# Altium footprint library Connector_Audio.PcbLib: 212 footprints (part 1 of 14)
Each footprint in its own frame and in the unit in brackets; x right, y up, seen from the top. Pads: shape width x height; smd on the part's side, far side on the other; paste and mask are expansions set on the pad; w line width, h text height; cw(c..) or ccw(c..) is an arc to the next point about the centre after c.
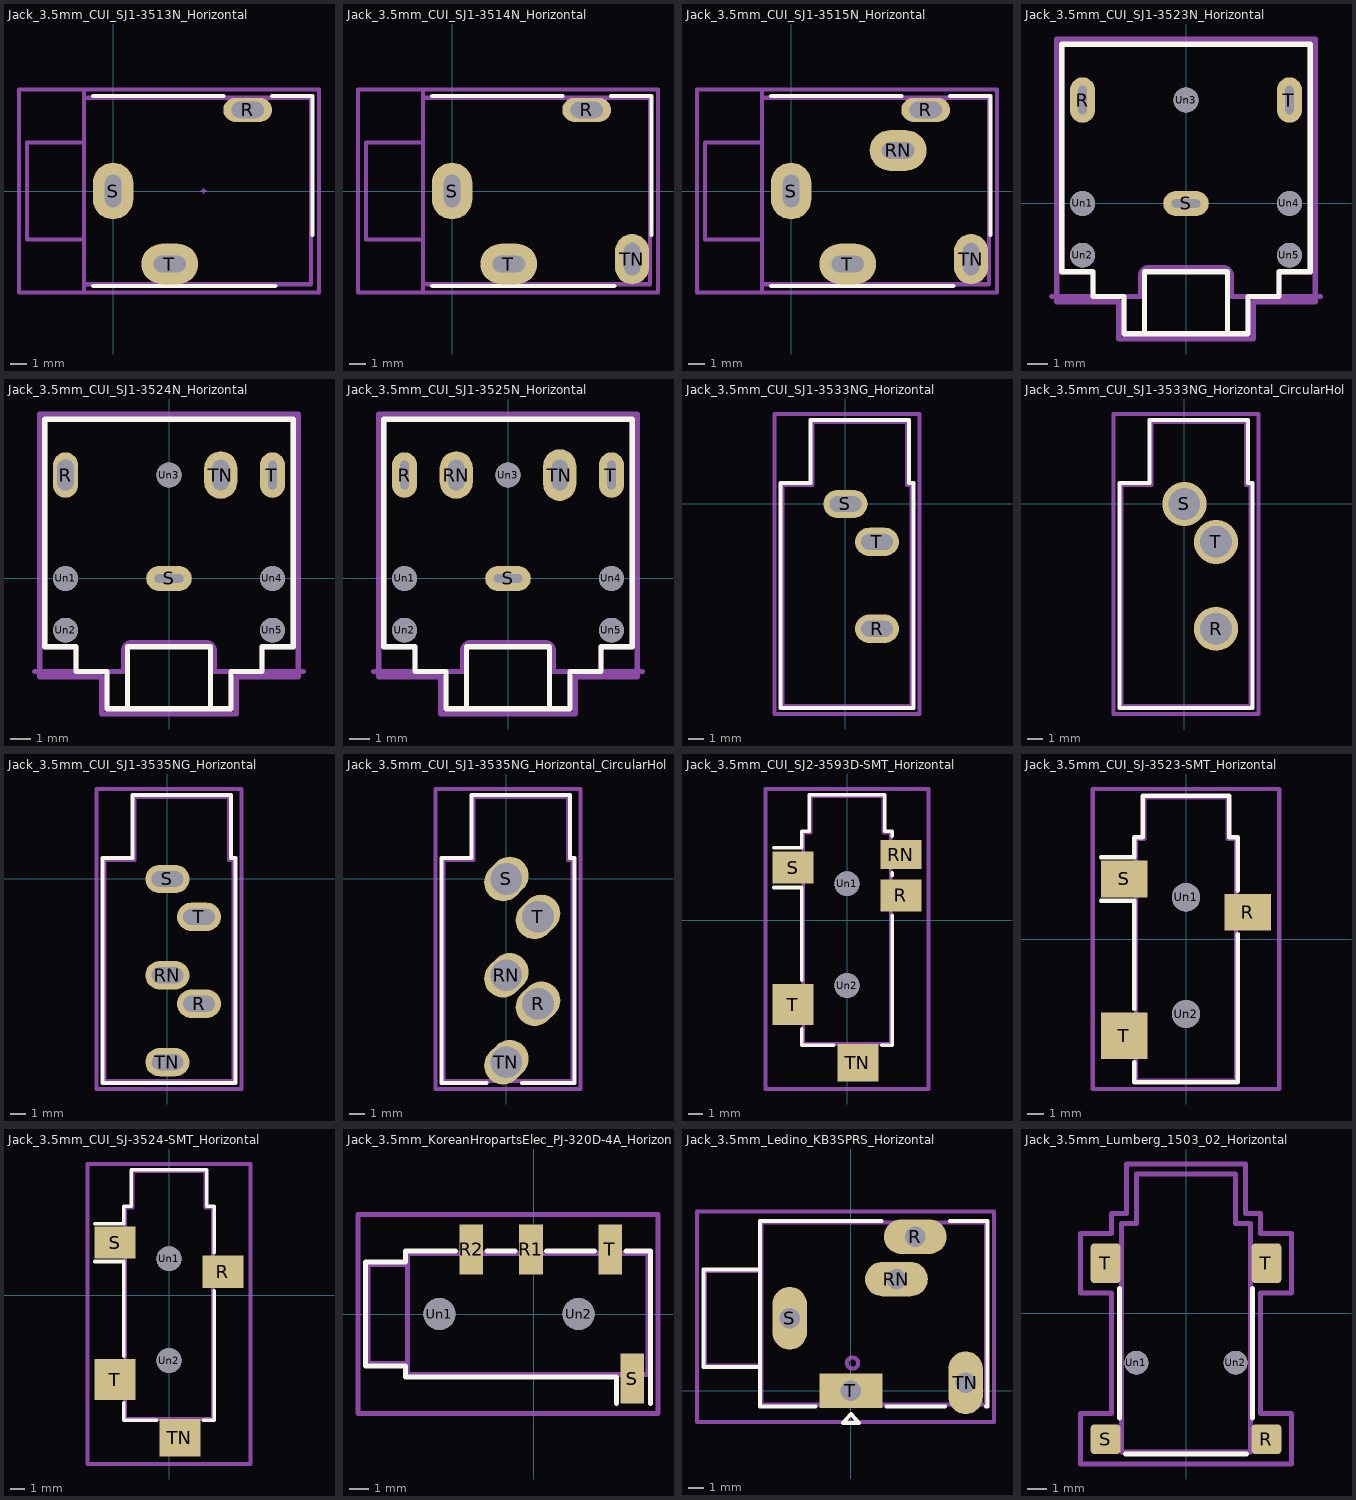
[diagram p0: the footprints below, top view; thin cyan lines are the x and y axes]

## Jack_3.5mm_CUI_SJ1-3513N_Horizontal [mm]
pads (3):
  rrect100% 3x1.5 hole 1 slot 2 at 0 deg: R(8.3,5)
  rrect100% 2.5x3.5 hole 1 slot 2 at 90 deg: S(0,0)
  rrect100% 3.5x2.5 hole 1 slot 2 at 0 deg: T(3.5,-4.5)
F.SilkS:
  lines w0.254: -1.219,-5.86 10,-5.86 ; -1.219,5.86 6.8,5.86 ; 9.8,5.86 12.31,5.86 12.31,-2.7
Top Component Center:
  lines w0.127: 5.461,0 5.715,0 ; 5.588,-0.127 5.588,0.127
Top Assembly:
  lines w0.254: -5.3,-3 -1.8,-3 -1.8,-5.75 12.2,-5.75 12.2,5.75 -1.8,5.75 -1.8,3 -5.3,3 -5.3,-3
  text "'.Designator'" at 1.153,-0.84 h1
Top Courtyard:
  lines w0.254: -5.8,-6.25 12.7,-6.25 12.7,6.25 -5.8,6.25 -5.8,-6.25
Top Designator:
  text ".Designator" at -4.168,-0.508 h1.52
Cmts.User:
  lines w0.254: -1.8,-6.25 -1.8,6.25

## Jack_3.5mm_CUI_SJ1-3514N_Horizontal [mm]
pads (4):
  rrect100% 3x1.5 hole 1 slot 2 at 0 deg: R(8.3,5)
  rrect100% 2.5x3.5 hole 1 slot 2 at 90 deg: S(0,0)
  rrect100% 3.5x2.5 hole 1 slot 2 at 0 deg: T(3.5,-4.5)
  rrect100% 2.1x3.1 hole 1 slot 2 at 90 deg: TN(11.1,-4.2)
F.SilkS:
  lines w0.254: -1.219,-5.86 10,-5.86 ; -1.219,5.86 6.8,5.86 ; 9.8,5.86 12.31,5.86 12.31,-2.7
Top Assembly:
  lines w0.254: -5.3,-3 -1.8,-3 -1.8,-5.75 12.2,-5.75 12.2,5.75 -1.8,5.75 -1.8,3 -5.3,3 -5.3,-3
  text "'.Designator'" at 1.153,-0.84 h1
Top Courtyard:
  lines w0.254: -5.8,-6.25 12.7,-6.25 12.7,6.25 -5.8,6.25 -5.8,-6.25
Top Designator:
  text ".Designator" at -4.168,-0.508 h1.52
Cmts.User:
  lines w0.254: -1.8,-6.25 -1.8,6.25

## Jack_3.5mm_CUI_SJ1-3515N_Horizontal [mm]
pads (5):
  rrect100% 3x1.5 hole 1 slot 2 at 0 deg: R(8.3,5)
  rrect100% 3.5x2.5 hole 1 slot 2 at 0 deg: RN(6.6,2.5) T(3.5,-4.5)
  rrect100% 2.5x3.5 hole 1 slot 2 at 90 deg: S(0,0)
  rrect100% 2.1x3.1 hole 1 slot 2 at 90 deg: TN(11.1,-4.2)
F.SilkS:
  lines w0.254: -1.219,-5.86 10,-5.86 ; -1.219,5.86 6.8,5.86 ; 9.8,5.86 12.31,5.86 12.31,-2.7
Top Assembly:
  lines w0.254: -5.3,-3 -1.8,-3 -1.8,-5.75 12.2,-5.75 12.2,5.75 -1.8,5.75 -1.8,3 -5.3,3 -5.3,-3
  text "'.Designator'" at 1.153,-0.84 h1
Top Courtyard:
  lines w0.254: -5.8,-6.25 12.7,-6.25 12.7,6.25 -5.8,6.25 -5.8,-6.25
Top Designator:
  text ".Designator" at -4.168,-0.508 h1.52
Cmts.User:
  lines w0.254: -1.8,-6.25 -1.8,6.25

## Jack_3.5mm_CUI_SJ1-3523N_Horizontal [mm]
pads (8):
  rrect100% 1.2x2.2 hole 1.4 slot 0.4 at 0 deg: R(-5,5) T(5,5)
  rrect100% 2.2x1.2 hole 0.4 slot 1.4 at 0 deg: S(0,0)
  round 1.2 hole 1.2: Un1(-5,0) Un2(-5,-2.5) Un3(0,5) Un4(5,0) Un5(5,-2.5)
F.SilkS:
  lines w0.254: -2,-6.3 -2,-3.3 2,-3.3 2,-6.3 ; -6,-3.3 -4.5,-3.3 -4.5,-4.5 -3,-4.5 -3,-6.3 3,-6.3 3,-4.5 4.5,-4.5 4.5,-3.3 6,-3.3 6,7.7 -6,7.7 -6,-3.3
Top Assembly:
  lines w0.254: -6,-3.3 -4.5,-3.3 -4.5,-4.5 -3,-4.5 -3,-6.3 3,-6.3 3,-4.5 4.5,-4.5 4.5,-3.3 6,-3.3 6,7.7 -6,7.7 -6,-3.3
  text "'.Designator'" at -4.047,0.66 h1
Top Courtyard:
  lines w0.254: -6.25,-4.75 -3.25,-4.75 -3.25,-6.55 3.25,-6.55 3.25,-4.75 6.25,-4.75 6.25,-4.5 6.25,7.95 -6.25,7.95 -6.25,-4.75
Top Designator:
  text ".Designator" at -7.618,0.192 h1.52
Board Shape:
  lines w0.254: -6.5,-4.5 -2.2,-4.5 -2.2,-3.5 cw(c-1.8,-3.5) -1.8,-3.1 1.8,-3.1 cw(c1.8,-3.5) 2.2,-3.5 2.2,-4.5 6.5,-4.5
Dwgs.User:
  text "PCB edge" at -3.447,-4.467 h1
3D body "Jack_3.5mm_CUI_SJ1-3523N_Horizontal.step": height 5.5, standoff -3.3, extent -6,-6.8 6,7.5

## Jack_3.5mm_CUI_SJ1-3524N_Horizontal [mm]
pads (9):
  rrect100% 1.2x2.2 hole 1.5 slot 0.8 at 0 deg: R(-5,5)
  rrect100% 2.2x1.2 hole 0.4 slot 1.4 at 0 deg: S(0,0)
  rrect100% 1.2x2.2 hole 1.4 slot 0.4 at 0 deg: T(5,5)
  rrect100% 1.6x2.3 hole 1.5 slot 0.8 at 0 deg: TN(2.5,5)
  round 1.2 hole 1.2: Un1(-5,0) Un2(-5,-2.5) Un3(0,5) Un4(5,0) Un5(5,-2.5)
F.SilkS:
  lines w0.254: -2,-6.3 -2,-3.3 2,-3.3 2,-6.3 ; -6,-3.3 -6,7.7 6,7.7 6,-3.3 4.5,-3.3 4.5,-4.5 3,-4.5 3,-6.3 -3,-6.3 -3,-4.5 -4.5,-4.5 -4.5,-3.3 -6,-3.3
Top Assembly:
  lines w0.254: -6,-3.3 -6,7.7 6,7.7 6,-3.3 4.5,-3.3 4.5,-4.5 3,-4.5 3,-6.3 -3,-6.3 -3,-4.5 -4.5,-4.5 -4.5,-3.3 -6,-3.3
  text "'.Designator'" at -4.047,0.66 h1
Top Courtyard:
  lines w0.254: -6.25,-4.75 -6.25,7.95 6.25,7.95 6.25,-4.5 6.25,-4.75 3.25,-4.75 3.25,-6.55 -3.25,-6.55 -3.25,-4.75 -6.25,-4.75
Top Designator:
  text ".Designator" at -7.618,0.192 h1.52
Board Shape:
  lines w0.254: -6.5,-4.5 -2.2,-4.5 -2.2,-3.5 cw(c-1.8,-3.5) -1.8,-3.1 1.8,-3.1 cw(c1.8,-3.5) 2.2,-3.5 2.2,-4.5 6.5,-4.5
Dwgs.User:
  text "PCB edge" at -3.447,-4.467 h1
3D body "Jack_3.5mm_CUI_SJ1-3524N_Horizontal.step": height 5.5, standoff -3.3, extent -6,-6.8 6,7.5

## Jack_3.5mm_CUI_SJ1-3525N_Horizontal [mm]
pads (10):
  rrect100% 1.2x2.2 hole 1.4 slot 0.4 at 0 deg: R(-5,5) T(5,5)
  rrect100% 1.6x2.3 hole 1.5 slot 0.8 at 0 deg: RN(-2.5,5)
  rrect100% 2.2x1.2 hole 0.4 slot 1.4 at 0 deg: S(0,0)
  rrect100% 1.6x2.5 hole 1.5 slot 0.8 at 0 deg: TN(2.5,5)
  round 1.2 hole 1.2: Un1(-5,0) Un2(-5,-2.5) Un3(0,5) Un4(5,0) Un5(5,-2.5)
F.SilkS:
  lines w0.254: -2,-6.3 -2,-3.3 2,-3.3 2,-6.3 ; -6,-3.3 -4.5,-3.3 -4.5,-4.5 -3,-4.5 -3,-6.3 3,-6.3 3,-4.5 4.5,-4.5 4.5,-3.3 6,-3.3 6,7.7 -6,7.7 -6,-3.3
Top Assembly:
  lines w0.254: -6,-3.3 -4.5,-3.3 -4.5,-4.5 -3,-4.5 -3,-6.3 3,-6.3 3,-4.5 4.5,-4.5 4.5,-3.3 6,-3.3 6,7.7 -6,7.7 -6,-3.3
  text "'.Designator'" at -4.047,0.66 h1
Top Courtyard:
  lines w0.254: -6.25,-4.75 -3.25,-4.75 -3.25,-6.55 3.25,-6.55 3.25,-4.75 6.25,-4.75 6.25,-4.5 6.25,7.95 -6.25,7.95 -6.25,-4.75
Top Designator:
  text ".Designator" at -7.618,0.192 h1.52
Board Shape:
  lines w0.254: -6.5,-4.5 -2.2,-4.5 -2.2,-3.5 cw(c-1.8,-3.5) -1.8,-3.1 1.8,-3.1 cw(c1.8,-3.5) 2.2,-3.5 2.2,-4.5 6.5,-4.5
Dwgs.User:
  text "PCB edge" at -3.447,-4.467 h1
3D body "Jack_3.5mm_CUI_SJ1-3525N_Horizontal.step": height 5.5, standoff -3.3, extent -6,-6.8 6,7.5

## Jack_3.5mm_CUI_SJ1-3533NG_Horizontal [mm]
pads (3):
  rrect100% 2.8x1.8 hole 1 slot 2 at 0 deg: R(2,-7.9) S(0,0) T(2,-2.4)
F.SilkS:
  lines w0.254: -4.12,-12.92 4.32,-12.92 4.32,1.32 4.02,1.32 4.02,5.32 -2.22,5.32 -2.22,1.32 -4.12,1.32 -4.12,-12.92
Top Assembly:
  lines w0.254: -4,-12.8 4.2,-12.8 4.2,1.2 3.9,1.2 3.9,5.2 -2.1,5.2 -2.1,1.2 -4,1.2 -4,-12.8
  text "'.Designator'" at -3.947,-4.64 h1
Top Courtyard:
  lines w0.254: -4.5,-13.3 4.7,-13.3 4.7,5.7 -4.5,5.7 -4.5,-13.3
Top Designator:
  text ".Designator" at -7.518,-4.308 h1.52

## Jack_3.5mm_CUI_SJ1-3533NG_Horizontal_CircularHoles [mm]
pads (3):
  round 2.8 hole 2: R(2,-7.9) S(0,0) T(2,-2.4)
F.SilkS:
  lines w0.254: -4.12,-12.92 4.32,-12.92 4.32,1.32 4.02,1.32 4.02,5.32 -2.22,5.32 -2.22,1.32 -4.12,1.32 -4.12,-12.92
Top Assembly:
  lines w0.254: -4,-12.8 4.2,-12.8 4.2,1.2 3.9,1.2 3.9,5.2 -2.1,5.2 -2.1,1.2 -4,1.2 -4,-12.8
  text "'.Designator'" at -3.947,-4.64 h1
Top Courtyard:
  lines w0.254: -4.5,-13.3 4.7,-13.3 4.7,5.7 -4.5,5.7 -4.5,-13.3
Top Designator:
  text ".Designator" at -7.518,-4.308 h1.52

## Jack_3.5mm_CUI_SJ1-3535NG_Horizontal [mm]
pads (5):
  rrect100% 2.8x1.8 hole 1 slot 2 at 0 deg: R(2,-7.9) RN(0,-6.1) S(0,0) T(2,-2.4) TN(0,-11.6)
F.SilkS:
  lines w0.254: -4.12,-12.92 4.32,-12.92 4.32,1.32 4.02,1.32 4.02,5.32 -2.22,5.32 -2.22,1.32 -4.12,1.32 -4.12,-12.92
Top Assembly:
  lines w0.254: -4,-12.8 4.2,-12.8 4.2,1.2 3.9,1.2 3.9,5.2 -2.1,5.2 -2.1,1.2 -4,1.2 -4,-12.8
  text "'.Designator'" at -3.947,-4.64 h1
Top Courtyard:
  lines w0.254: -4.5,-13.3 4.7,-13.3 4.7,5.7 -4.5,5.7 -4.5,-13.3
Top Designator:
  text ".Designator" at -7.518,-4.308 h1.52

## Jack_3.5mm_CUI_SJ1-3535NG_Horizontal_CircularHoles [mm]
pads (5):
  rrect100% 3x2.4 hole 2 rot 45: R(2,-7.9) RN(0,-6.1) S(0,0) T(2,-2.4) TN(0,-11.6)
F.SilkS:
  lines w0.254: -1.25,-12.92 -4.12,-12.92 -4.12,1.32 -2.22,1.32 -2.22,5.32 4.02,5.32 4.02,1.32 4.32,1.32 4.32,-12.92 1,-12.92
Top Assembly:
  lines w0.254: -4,-12.8 4.2,-12.8 4.2,1.2 3.9,1.2 3.9,5.2 -2.1,5.2 -2.1,1.2 -4,1.2 -4,-12.8
  text "'.Designator'" at -3.947,-4.64 h1
Top Courtyard:
  lines w0.254: -4.5,-13.3 4.7,-13.3 4.7,5.7 -4.5,5.7 -4.5,-13.3
Top Designator:
  text ".Designator" at -7.518,-4.421 h1.52

## Jack_3.5mm_CUI_SJ2-3593D-SMT_Horizontal [mm]
pads (7):
  rect 2.8x2.2 smd: R(3.7,1.7) S(-3.7,3.6)
  rect 2.8x2 smd: RN(3.7,4.5)
  rect 2.8x2.8 smd: T(-3.7,-5.8)
  rect 2.8x2.6 smd: TN(0.75,-9.8)
  round 1.7 hole 1.7: Un1(0,2.5) Un2(0,-4.5)
F.SilkS:
  lines w0.254: -5.04,2.24 -3.1,2.24 -3.1,-4.14 ; -5.04,4.96 -3.1,4.96 -3.1,6.1 -2.6,6.1 -2.6,8.6 2.6,8.6 2.6,6.1 3.1,6.1 3.1,5.76 ; -3.1,-7.46 -3.1,-8.6 -0.91,-8.6 ; 2.41,-8.6 3.1,-8.6 3.1,0.34 ; 3.1,3.06 3.1,3.24
Top Assembly:
  lines w0.254: -3,-8.5 3,-8.5 3,6 2.5,6 2.5,8.5 -2.5,8.5 -2.5,6 -3,6 -3,-8.5
  text "'.Designator'" at -4.047,-0.84 h1
Top Courtyard:
  lines w0.254: -5.6,-11.6 5.6,-11.6 5.6,9 -5.6,9 -5.6,-11.6
Top Designator:
  text ".Designator" at -7.618,-1.808 h1.52

## Jack_3.5mm_CUI_SJ-3523-SMT_Horizontal [mm]
pads (5):
  rect 2.8x2.2 smd: R(3.7,1.6) S(-3.7,3.6)
  rect 2.8x2.8 smd: T(-3.7,-5.8)
  round 1.7 hole 1.7: Un1(0,2.5) Un2(0,-4.5)
F.SilkS:
  lines w0.254: -5.1,2.3 -3.1,2.3 -3.1,-4.2 ; -5.1,4.9 -3.1,4.9 -3.1,6.1 -2.6,6.1 -2.6,8.6 2.6,8.6 2.6,6.1 3.1,6.1 3.1,2.9 ; -3.1,-7.4 -3.1,-8.6 3.1,-8.6 3.1,0.3
Top Assembly:
  lines w0.254: -3,-8.5 -3,6 -2.5,6 -2.5,8.5 2.5,8.5 2.5,6 3,6 3,-8.5 -3,-8.5
  text "'.Designator'" at -4.047,-0.84 h1
Top Courtyard:
  lines w0.254: -5.6,-9 -5.6,9 5.6,9 5.6,-9 -5.6,-9
Top Designator:
  text ".Designator" at -7.618,-0.508 h1.52

## Jack_3.5mm_CUI_SJ-3524-SMT_Horizontal [mm]
pads (6):
  rect 2.8x2.2 smd: R(3.7,1.6) S(-3.7,3.6)
  rect 2.8x2.8 smd: T(-3.7,-5.8)
  rect 2.8x2.6 smd: TN(0.75,-9.8)
  round 1.7 hole 1.7: Un1(0,2.5) Un2(0,-4.5)
F.SilkS:
  lines w0.254: -5.1,2.3 -3.1,2.3 -3.1,-4.2 ; -5.1,4.9 -3.1,4.9 -3.1,6.1 -2.6,6.1 -2.6,8.6 2.6,8.6 2.6,6.1 3.1,6.1 3.1,2.9 ; -3.1,-7.4 -3.1,-8.6 -0.85,-8.6 ; 2.35,-8.6 3.1,-8.6 3.1,0.3
Top Assembly:
  lines w0.254: -3,-8.5 -3,6 -2.5,6 -2.5,8.5 2.5,8.5 2.5,6 3,6 3,-8.5 -3,-8.5
  text "'.Designator'" at -4.047,-0.84 h1
Top Courtyard:
  lines w0.254: -5.6,-11.6 -5.6,9 5.6,9 5.6,-11.6 -5.6,-11.6
Top Designator:
  text ".Designator" at -7.618,-1.808 h1.52

## Jack_3.5mm_KoreanHropartsElec_PJ-320D-4A_Horizontal [mm]
pads (6):
  rect 1.2x2.5 smd: R1(-0.15,3.25) R2(-3.15,3.25) S(4.95,-3.25) T(3.85,3.25)
  round 1.6 hole 1.6: Un1(-4.75,0) Un2(2.25,0)
F.SilkS:
  lines w0.254: -3.95,3.17 -6.47,3.17 -6.47,2.62 -8.47,2.62 -8.47,-2.62 -6.47,-2.62 -6.47,-3.17 4.15,-3.17 4.15,-4.5 ; -2.35,3.17 -0.95,3.17 ; 0.65,3.17 3.05,3.17 ; 4.65,3.17 5.87,3.17 5.87,-4.5
Top Assembly:
  lines w0.254: -6.35,-2.5 -8.35,-2.5 -8.35,2.5 -6.35,2.5 ; -6.35,-3.05 -6.35,3.05 5.75,3.05 5.75,-3.05 -6.35,-3.05
  text "'.Designator'" at -4.047,-0.84 h1
Top Courtyard:
  lines w0.254: -8.85,-5 -8.85,5 6.25,5 6.25,-5 -8.85,-5
Top Designator:
  text ".Designator" at -8.918,-0.508 h1.52
3D body "Jack_3.5mm_KoreanHropartsElec_PJ-320D-4A_Horizontal.STEP": height 5.3, standoff -0.7, extent -8.497,-4.254 5.603,3.746

## Jack_3.5mm_Ledino_KB3SPRS_Horizontal [mm]
pads (5):
  rrect100% 4x2.2 hole 1.3: R(4.1,9.8) RN(2.9,7.1)
  rrect100% 2.2x4 hole 1.3: S(-3.9,4.6) TN(7.3,0.5)
  rect 4x2.2 hole 1.3: T(0,0)
F.SilkS:
  lines w0.254: -5.8,1.5 -9.4,1.5 -9.4,7.7 -5.8,7.7 ; -2.25,-1 -5.8,-1 -5.8,10.8 1.95,10.8 ; 2.25,-1 6,-1 ; 6.3,10.8 8.7,10.8 8.7,-1 8.6,-1 ; -0.5,-2.05 0.5,-2.05 0,-1.5 -0.5,-2.05
Top Assembly:
  circle w0.254: c0.1,1.75 r0.361
  lines w0.254: -5.7,1.6 -9.3,1.6 -9.3,7.6 -5.7,7.6 ; -5.7,-0.9 -5.7,10.7 8.6,10.7 8.6,-0.9 -5.7,-0.9
  text "'.Designator'" at -1.347,3.76 h1
Top Courtyard:
  lines w0.254: -9.8,-2 -9.8,11.4 9.1,11.4 9.1,-2 -9.8,-2
Top Designator:
  text ".Designator" at -7.968,4.167 h1.52

## Jack_3.5mm_Lumberg_1503_02_Horizontal [mm]
pads (6):
  rrect25% 1.5x1.5 smd: R(4.05,-6.35) S(-4.05,-6.35)
  rrect25% 1.5x2 smd: T(-4.05,2.5) T(4.05,2.5)
  round 1.2 hole 1.2: Un1(-2.5,-2.5) Un2(2.5,-2.5)
F.SilkS:
  lines w0.254: -3.35,-5.29 -3.35,1.24 ; -3.04,-7.1 3.04,-7.1 ; 3.35,-5.29 3.35,1.24
Top Assembly:
  lines w0.254: -3.25,-7 -3.25,4.5 -2.5,4.5 -2.5,7 2.5,7 2.5,4.5 3.25,4.5 3.25,-7 -3.25,-7
  text "'.Designator'" at -4.047,-0.84 h1
Top Courtyard:
  lines w0.254: -5.3,-7.6 -5.3,-5.05 -3.75,-5.05 -3.75,1 -5.3,1 -5.3,4 -3.75,4 -3.75,5 -3,5 -3,7.5 3,7.5 3,5 3.75,5 3.75,4 5.3,4 5.3,1 3.75,1 3.75,-5.05 5.3,-5.05 5.3,-7.6 -5.3,-7.6
Top Designator:
  text ".Designator" at -7.618,-0.558 h1.52